# Altium schematic symbol library customParts.SchLib: 2 symbols
Pins are listed as number, name and electrical type; pins without a type are passive.

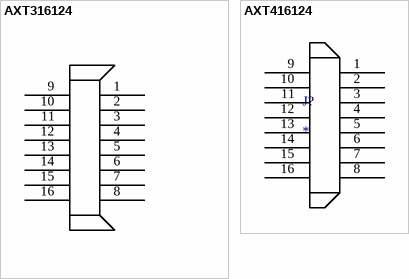
[diagram p0: symbols AXT316124 to AXT416124]

## AXT316124
designator J?
Female socket 0.4mm pitch 16 pins
footprint AXT316124
pins: 1, 2, 3, 4, 5, 6, 7, 8, 9, 10, 11, 12, 13, 14, 15, 16

## AXT416124
designator J?
Male header conn 0.4 mm pitch 16 pins
footprint AXT416124 (male header 16 pins)
pins: 1, 2, 3, 4, 5, 6, 7, 8, 9, 10, 11, 12, 13, 14, 15, 16